# Altium footprint library 常用元件封裝庫(pcb).PCBLIB: 67 footprints (part 3 of 5)
Each footprint in its own frame and in the unit in brackets; x right, y up, seen from the top. Pads: shape width x height; smd on the part's side, far side on the other; paste and mask are expansions set on the pad; w line width, h text height; cw(c..) or ccw(c..) is an arc to the next point about the centre after c.
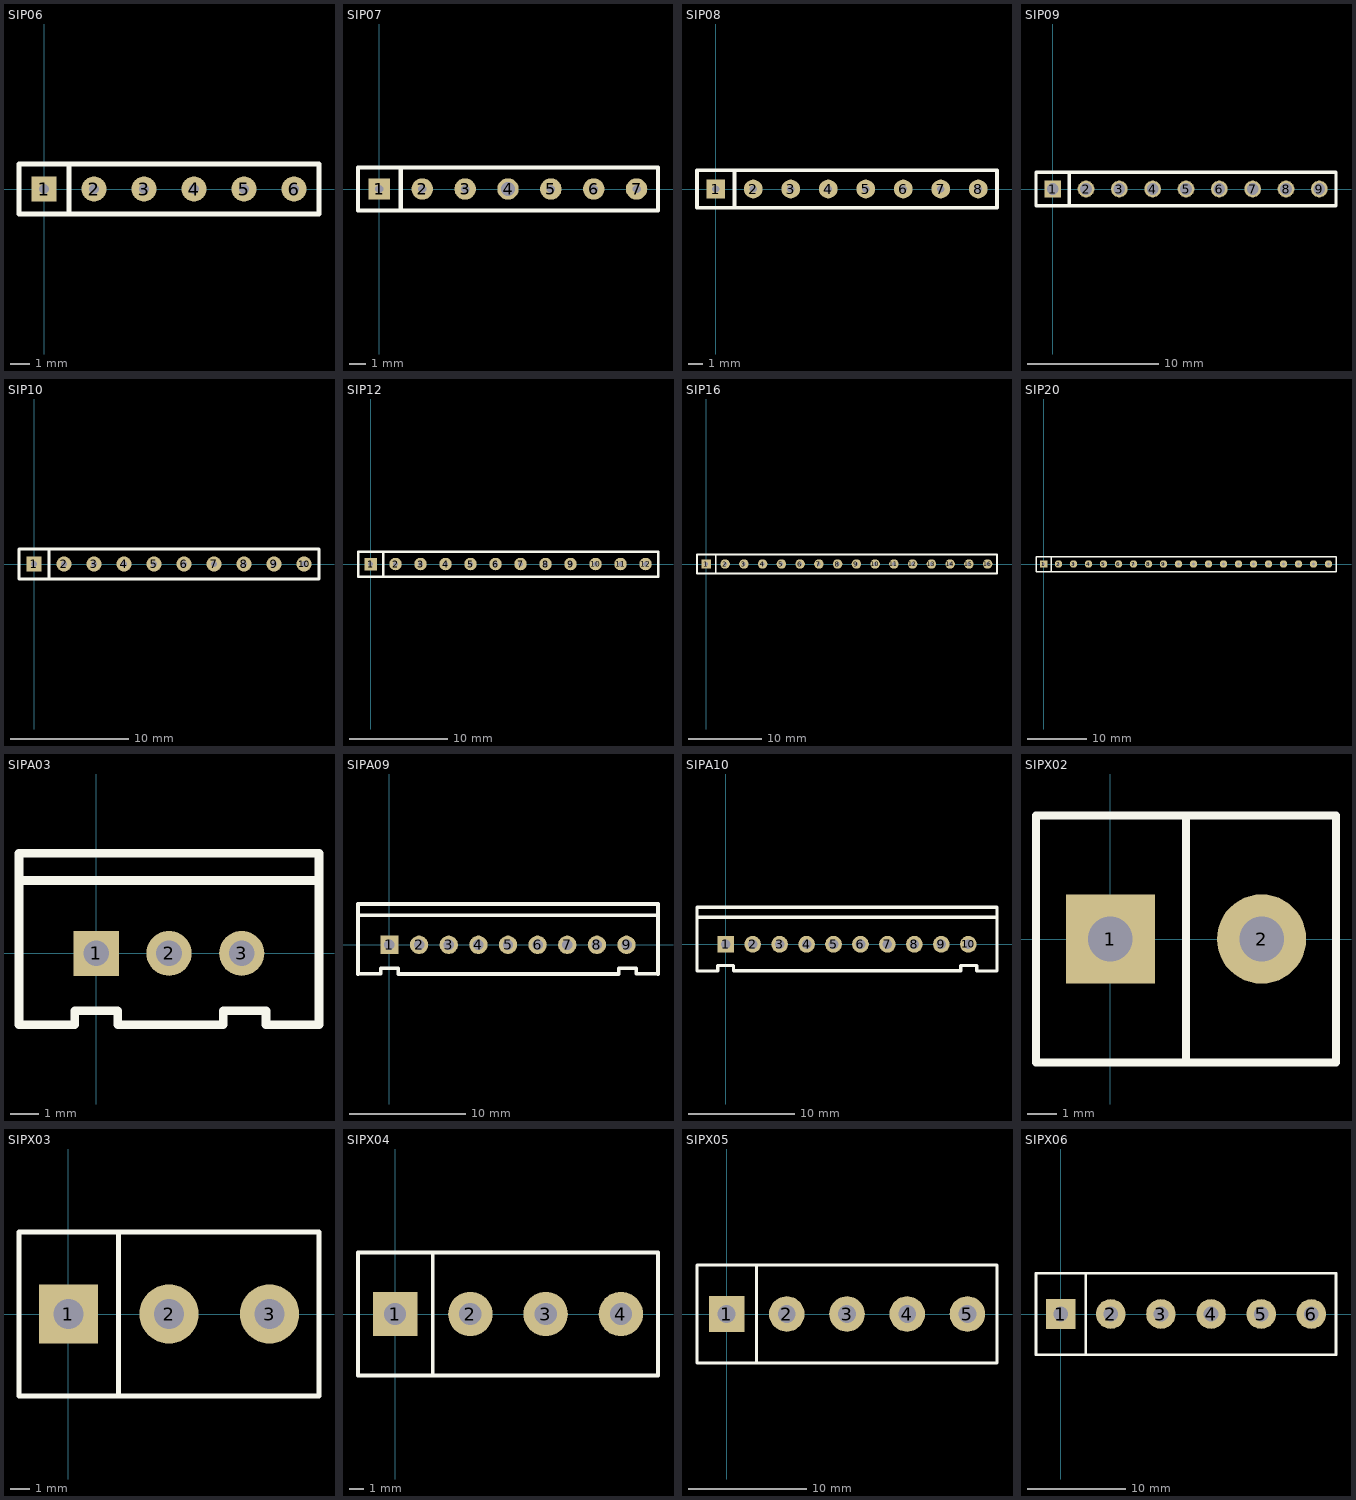
[diagram p2: the footprints below, top view; thin cyan lines are the x and y axes]

## SIP06 [mm]
pads (6):
  rect 1.27x1.27 hole 0.5: 1(0,0)
  round 1.27 hole 0.5: 2(2.54,0) 3(5.08,0) 4(7.62,0) 5(10.16,0) 6(12.7,0)
Top Overlay:
  lines w0.254: 1.27,-1.27 1.27,1.27 ; -1.27,-1.27 -1.27,1.27 13.97,1.27 13.97,-1.27 -1.27,-1.27

## SIP07 [mm]
pads (7):
  rect 1.27x1.27 hole 0.5: 1(0,0)
  round 1.27 hole 0.5: 2(2.54,0) 3(5.08,0) 5(10.16,0) 6(12.7,0) 7(15.24,0)
  round 1.27 hole 0.813: 4(7.62,0)
Top Overlay:
  lines w0.254: 1.27,-1.27 1.27,1.27 ; -1.27,-1.27 -1.27,1.27 16.51,1.27 16.51,-1.27 -1.27,-1.27

## SIP08 [mm]
pads (8):
  rect 1.27x1.27 hole 0.5: 1(0,0)
  round 1.27 hole 0.5: 2(2.54,0) 3(5.08,0) 4(7.62,0) 5(10.16,0) 6(12.7,0) 7(15.24,0) 8(17.78,0)
Top Overlay:
  lines w0.254: 1.27,-1.27 1.27,1.27 ; -1.27,-1.27 -1.27,1.27 19.05,1.27 19.05,-1.27 -1.27,-1.27

## SIP09 [mm]
pads (9):
  rect 1.27x1.27 hole 0.9: 1(0,0)
  round 1.27 hole 0.9: 2(2.54,0) 3(5.08,0) 4(7.62,0) 5(10.16,0) 6(12.7,0) 7(15.24,0) 8(17.78,0) 9(20.32,0)
Top Overlay:
  lines w0.254: 1.27,-1.27 1.27,1.27 ; -1.27,-1.27 21.59,-1.27 21.59,1.27 -1.27,1.27 -1.27,-1.27

## SIP10 [mm]
pads (10):
  rect 1.27x1.27 hole 0.5: 1(0,0)
  round 1.27 hole 0.5: 2(2.54,0) 3(5.08,0) 4(7.62,0) 5(10.16,0) 6(12.7,0) 7(15.24,0) 8(17.78,0) 9(20.32,0) 10(22.86,0)
Top Overlay:
  lines w0.254: 1.27,-1.27 1.27,1.27 ; -1.27,-1.27 24.13,-1.27 24.13,1.27 -1.27,1.27 -1.27,-1.27

## SIP12 [mm]
pads (12):
  rect 1.27x1.27 hole 0.5: 1(0,0)
  round 1.27 hole 0.5: 2(2.54,0) 3(5.08,0) 4(7.62,0) 5(10.16,0) 6(12.7,0) 7(15.24,0) 8(17.78,0) 9(20.32,0) 10(22.86,0) 11(25.4,0) 12(27.94,0)
Top Overlay:
  lines w0.254: 1.27,-1.27 1.27,1.27 ; -1.27,-1.27 -1.27,1.27 29.21,1.27 29.21,-1.27 -1.27,-1.27

## SIP16 [mm]
pads (16):
  rect 1.27x1.27 hole 0.5: 1(0,0)
  round 1.27 hole 0.5: 2(2.54,0) 3(5.08,0) 4(7.62,0) 5(10.16,0) 6(12.7,0) 7(15.24,0) 8(17.78,0) 9(20.32,0) 10(22.86,0) 11(25.4,0) 12(27.94,0) 13(30.48,0) 14(33.02,0) 15(35.56,0) 16(38.1,0)
Top Overlay:
  lines w0.254: 1.27,-1.27 1.27,1.27 ; -1.27,-1.27 -1.27,1.27 39.37,1.27 39.37,-1.27 -1.27,-1.27

## SIP20 [mm]
pads (20):
  rect 1.27x1.27 hole 0.5: 1(0,0)
  round 1.27 hole 0.5: 2(2.54,0) 3(5.08,0) 4(7.62,0) 5(10.16,0) 6(12.7,0) 7(15.24,0) 8(17.78,0) 9(20.32,0) 10(22.86,0) 11(25.4,0) 12(27.94,0) 13(30.48,0) 14(33.02,0) 15(35.56,0) 16(38.1,0) 17(40.64,0) 18(43.18,0) 19(45.72,0) 20(48.26,0)
Top Overlay:
  lines w0.254: 1.27,-1.27 1.27,1.27 ; -1.27,-1.27 -1.27,1.27 49.53,1.27 49.53,-1.27 -1.27,-1.27

## SIPA03 [mil]
pads (3):
  rect 62x62 hole 35.43: 1(0,0)
  round 62 hole 35.43: 2(100,0) 3(200,0)
Top Overlay:
  lines w11.81: -106.3,-98.42 -29.53,-98.42 -29.53,-78.74 29.53,-78.74 29.53,-98.42 ; 174.41,-98.42 174.41,-78.74 233.47,-78.74 233.47,-98.42 306.3,-98.42
  lines w12: -106.3,-98.42 -106.3,137.79 304.72,137.79 ; -106.3,100 304.72,100 ; 29.53,-98.42 174.41,-98.42 ; 306.3,-98.42 306.3,137.79

## SIPA09 [mil]
pads (9):
  rect 62x62 hole 35.43: 1(0,0)
  round 62 hole 35.43: 2(100,0) 3(200,0) 4(300,0) 5(400,0) 6(500,0) 7(600,0) 8(700,0) 9(800,0)
Top Overlay:
  lines w11.81: -106.3,-98.42 -29.53,-98.42 -29.53,-78.74 29.53,-78.74 29.53,-98.42 ; 774.41,-98.42 774.41,-78.74 833.47,-78.74 833.47,-98.42 906.3,-98.42
  lines w12: -106.3,-98.42 -106.3,137.79 904.72,137.79 ; -106.3,100 904.72,100 ; 29.53,-98.42 774.41,-98.42 ; 906.3,-98.42 906.3,137.79

## SIPA10 [mil]
pads (10):
  rect 62x62 hole 35.43: 1(0,0)
  round 62 hole 35.43: 2(100,0) 3(200,0) 4(300,0) 5(400,0) 6(500,0) 7(600,0) 8(700,0) 9(800,0) 10(900,0)
Top Overlay:
  lines w11.81: -106.3,-98.42 -29.53,-98.42 -29.53,-78.74 29.53,-78.74 29.53,-98.42 ; 872.05,-98.42 872.05,-78.74 931.1,-78.74 931.1,-98.42 1005.32,-98.42
  lines w12: -106.3,-98.42 -106.3,137.79 1006.3,137.79 1006.3,-98.42 ; -106.3,100 1006.3,100 ; 29.53,-98.42 872.05,-98.42

## SIPX02 [mm]
pads (2):
  rect 3x3 hole 1.5: 1(0,0)
  round 3 hole 1.5: 2(5.08,0)
Top Overlay:
  lines w0.254: 2.54,-4.15 2.54,4.15 ; -2.5,-4.15 7.58,-4.15 7.58,4.15 -2.5,4.15 -2.5,-4.15

## SIPX03 [mm]
pads (3):
  rect 3x3 hole 1.5: 1(0,0)
  round 3 hole 1.5: 2(5.08,0) 3(10.16,0)
Top Overlay:
  lines w0.254: 2.54,-4.15 2.54,4.15 ; -2.5,-4.15 12.66,-4.15 12.66,4.15 -2.5,4.15 -2.5,-4.15

## SIPX04 [mm]
pads (4):
  rect 3x3 hole 1.5: 1(0,0)
  round 3 hole 1.5: 2(5.08,0) 3(10.16,0) 4(15.24,0)
Top Overlay:
  lines w0.254: 2.54,-4.15 2.54,4.15 ; -2.5,-4.15 17.74,-4.15 17.74,4.15 -2.5,4.15 -2.5,-4.15

## SIPX05 [mm]
pads (5):
  rect 3x3 hole 1.5: 1(0,0)
  round 3 hole 1.5: 2(5.08,0) 3(10.16,0) 4(15.24,0) 5(20.32,0)
Top Overlay:
  lines w0.254: 2.54,-4.15 2.54,4.15 ; -2.5,-4.15 22.82,-4.15 22.82,4.15 -2.5,4.15 -2.5,-4.15

## SIPX06 [mm]
pads (6):
  rect 3x3 hole 1.5: 1(0,0)
  round 3 hole 1.5: 2(5.08,0) 3(10.16,0) 4(15.24,0) 5(20.32,0) 6(25.4,0)
Top Overlay:
  lines w0.254: 2.54,-4.15 2.54,4.15 ; -2.5,-4.15 27.9,-4.15 27.9,4.15 -2.5,4.15 -2.5,-4.15